# Altium schematic symbol library Esp-01F Lib.SchLib: 1 symbol
Pins are listed as number, name and electrical type; pins without a type are passive.

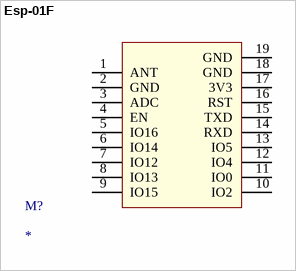
[diagram p0: symbol Esp-01F]

## Esp-01F
designator M?
footprint Esp Zero
pins: 1 ANT, 2 GND, 3 ADC, 4 EN, 5 IO16, 6 IO14, 7 IO12, 8 IO13, 9 IO15, 10 IO2, 11 IO0, 12 IO4, 13 IO5, 14 RXD, 15 TXD, 16 RST, 17 3V3, 18 GND, 19 GND